# Altium schematic symbol library M_CON1_PIN.Schlib: 1 symbol
Pins are listed as number, name and electrical type; pins without a type are passive.

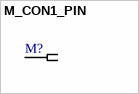
[diagram p0: symbol M_CON1_PIN]

## M_CON1_PIN
designator M?  (mechanical)
pins: 0